# Altium schematic symbol library Schlib1.SchLib: 10 symbols
Pins are listed as number, name and electrical type; pins without a type are passive.

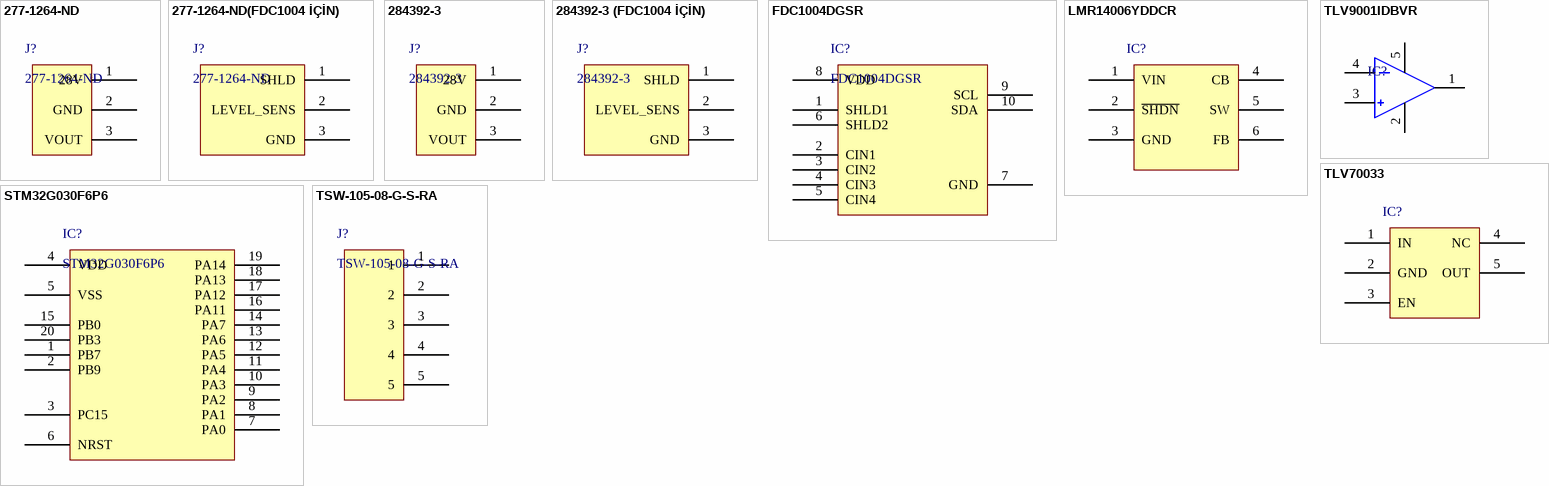
[diagram p0: symbols 277-1264-ND to TSW-105-08-G-S-RA]

## 277-1264-ND
designator J?
3 Position Wire to Board Terminal Block Horizontal with Board 0.200" (5.08mm) Through Hole
footprint 277-1264-ND
pins: 1 28V, 2 GND, 3 VOUT

## 277-1264-ND(FDC1004 İÇİN)
designator J?, comment 277-1264-ND
3 Position Wire to Board Terminal Block Horizontal with Board 0.200" (5.08mm) Through Hole
footprint 277-1264-ND
pins: 1 SHLD, 2 LEVEL_SENS, 3 GND

## 284392-3
designator J?
3 Position Wire to Board Terminal Block Horizontal with Board 0.150" (3.81mm) Through Hole
footprint 284392-3
pins: 1 28V, 2 GND, 3 VOUT

## 284392-3 (FDC1004 İÇİN)
designator J?, comment 284392-3
3 Position Wire to Board Terminal Block Horizontal with Board 0.150" (3.81mm) Through Hole
footprint 284392-3
pins: 1 SHLD, 2 LEVEL_SENS, 3 GND

## FDC1004DGSR
designator IC?
Capacitive Touch Proximity Only 10-VSSOP
footprint 10-VSSOP (DGS)
pins: 1 SHLD1, 2 CIN1, 3 CIN2, 4 CIN3, 5 CIN4, 6 SHLD2, 7 GND, 8 VDD, 9 SCL, 10 SDA

## LMR14006YDDCR
designator IC?
Buck Switching Regulator IC Positive Adjustable 0.765V 1 Output 600mA SOT-23-6 Thin, TSOT-23-6
footprint TSOT-23-6
pins: 1 VIN, 2 ~{SHDN}, 3 GND, 4 CB, 5 SW, 6 FB

## STM32G030F6P6
designator IC?
ARM® Cortex®-M0+ STM32G0 Microcontroller IC 32-Bit 64MHz 32KB (32K x 8) FLASH 20-TSSOP
footprint TSSOP20
pins: 1 PB7, 2 PB9, 3 PC15, 4 VDD, 5 VSS, 6 NRST, 7 PA0, 8 PA1, 9 PA2, 10 PA3, 11 PA4, 12 PA5, 13 PA6, 14 PA7, 15 PB0, 16 PA11, 17 PA12, 18 PA13, 19 PA14, 20 PB3

## TLV9001IDBVR
designator IC?
CMOS Amplifier 1 Circuit Rail-to-Rail SOT-23-5
footprint SOT23-5
pins: 1, 2, 3, 4, 5

## TLV70033
designator IC?
Linear Voltage Regulator IC Positive Fixed 1 Output 200mA SC-70-5
footprint SOT23-5
pins: 1 IN, 2 GND, 3 EN, 4 NC, 5 OUT

## TSW-105-08-G-S-RA
designator J?
Connector Header Through Hole, Right Angle 5 position 0.100" (2.54mm)
footprint TSW-105-08-G-S-RA
pins: 1, 2, 3, 4, 5